# Altium integrated library Isolation.IntLib: 8 symbols
Pins are listed as number, name and electrical type; pins without a type are passive.

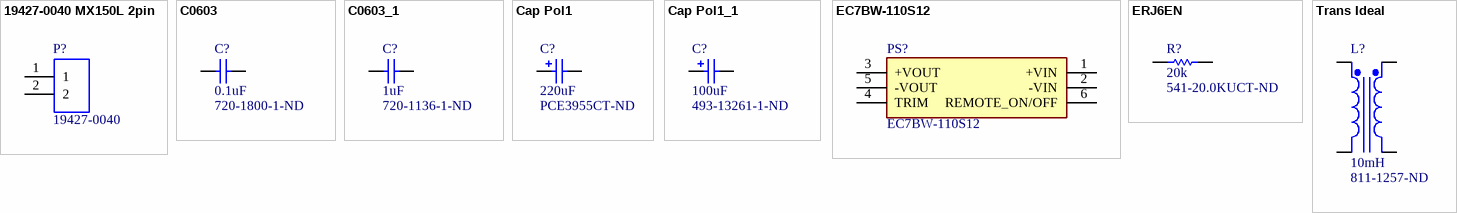
[diagram p0: symbols 19427-0040 MX150L 2pin to Trans Ideal]

## 19427-0040 MX150L 2pin
designator P?, comment 19427-0040
MX150L 2pin; Manufacturer_Name: Molex; Manufacturer_Part_Number: 19427-0040; Supplier Part Number 1: WM17504-ND
footprint MX150L 2pin (19427-0040 MX150L 2pin)
pins: 1, 2

## C0603
designator C?  value 0.1uF  Supplier Part Number 1: 720-1800-1-ND  (hidden comment: C0603)
C0603C104K3RACTU; Note: Footprint corresponds to dimensions for bulk cassette packaging. This case size has tightened tolerances.; Published: 17-Jul-2002; LatestRevisionDate: 19-Mar-2004; LatestRevisionNote: Silkscreen size reduced.; DatasheetDocument: Mar-2001; PackageDocument: Mar-2001; PackageReference: 0603; Publisher: Altium Limited; Code_JEITA: 0603; Code_IPC: 1608 [0603]; ComponentLink1Description: Manufacturer Link; ComponentLink1URL: http://www.kemet.com/; ComponentLink2Description: Datasheet; ComponentLink2URL: http://www.kemet.com/kemet/web/homepage/kechome.nsf/vapubfilesname/F3102TA.pdf/$file/F3102TA.pdf
footprint 0603
simulation model CAP (Capacitor)
signal-integrity model C0603
footprint 0603
footprint C1206
pins: 1, 2

## C0603_1
designator C?, comment value 1uF  Supplier Part Number 1: 720-1136-1-ND  (hidden comment: C0603)
C0603C104K3RACTU; Note: Footprint corresponds to dimensions for bulk cassette packaging. This case size has tightened tolerances.; Published: 17-Jul-2002; LatestRevisionDate: 19-Mar-2004; LatestRevisionNote: Silkscreen size reduced.; DatasheetDocument: Mar-2001; PackageDocument: Mar-2001; PackageReference: 0603; Publisher: Altium Limited; Code_JEITA: 0603; Code_IPC: 1608 [0603]; ComponentLink1Description: Manufacturer Link; ComponentLink1URL: http://www.kemet.com/; ComponentLink2Description: Datasheet; ComponentLink2URL: http://www.kemet.com/kemet/web/homepage/kechome.nsf/vapubfilesname/F3102TA.pdf/$file/F3102TA.pdf
simulation model CAP (Capacitor)
signal-integrity model C0603
footprint 2225 Package
pins: 1, 2

## Cap Pol1
designator C?, comment 220uF  Supplier Part Number 1: PCE3955CT-ND
Panasonic Electrolytic 35V, 20% EEE-1VA221UP; Value: 220uf
simulation model CAP (Capacitor)
signal-integrity model Cap Pol
footprint EEE-1VA221UP (Panasonic Aluminum Electrolytic Capacitor, 220uF, 35V, 20%)
pins: 1, 2
1 alternate drawing of the same symbol

## Cap Pol1_1
designator C?, comment 100uF  Supplier Part Number 1: 493-13261-1-ND
Nichicon 200V 100uF TH Capacitor  UCA2D101MHD6TN; Value: 100uf
simulation model CAP (Capacitor)
signal-integrity model Cap Pol
footprint NichiconCAP
pins: 1, 2
1 alternate drawing of the same symbol

## EC7BW-110S12
designator PS?
Power Supply; Manufacturer_Name: Cincon; Datasheet Link: https://www.cincon.com/productdownload/SPEC-EC7BW-110-V13.pdf; Height: 10.7mm; Manufacturer_Part_Number: EC7BW-110S12; Mouser Part Number: 418-EC7BW-110S12; Mouser Price/Stock: https://www.mouser.com/Search/Refine.aspx?Keyword=418-EC7BW-110S12
footprint EC7BW110S12
pins: 1 +VIN, 2 -VIN, 3 +VOUT, 4 TRIM, 5 -VOUT, 6 REMOTE_ON/OFF

## ERJ6EN
designator R?, comment 20k  Supplier Part Number 1: 541-20.0KUCT-ND
Precision Thick Film Chip Resistor, 10 Ohm to 2.2M Ohm Range, 1% Tolerance, 0805 Size, 0.1 W; Published: 17-Dec-2003; LatestRevisionDate: 19-Mar-2004; LatestRevisionNote: Silkscreen size reduced.; PackageDocument: Mar-2003; PackageReference: 6-0805; Publisher: Altium Limited; Code_IPC: 2012 [0805]; ComponentLink1Description: Manufacturer Link; ComponentLink1URL: http://www.panasonic.com/industrial/components/resistive_products.htm; ComponentLink2Description: Datasheet; ComponentLink2URL: http://www.panasonic.com/industrial/components/pdf/AOA0000CE2.pdf
simulation model RESISTOR (Resistor)
signal-integrity model Res
footprint C1206 (Chip Capacitor, Body 3.2x1.6mm, IPC High Density)
pins: 1, 2

## Trans Ideal
designator L?, comment 10mH  Supplier Part Number 1: 811-1257-ND
MuRata 52106C Common Choke; Code_IEC: 1005; Published: 8-Jun-2000; LatestRevisionDate: 29-May-2009; LatestRevisionNote: IPC-7351 Footprint Added.; PackageReference: 0402-A; Publisher: Altium Limited; PackageDescription: Chip Inductor; Code_JEITA: 0402
footprint 52106C (MuRata 10mH Common Mode Choke)
pins: 1, 2, 3, 4